# Altium footprint library TE NC6-P108-04.PCBLIB: 1 footprints
Each footprint in its own frame and in the unit in brackets; x right, y up, seen from the top. Pads: shape width x height; smd on the part's side, far side on the other; paste and mask are expansions set on the pad; w line width, h text height; cw(c..) or ccw(c..) is an arc to the next point about the centre after c.
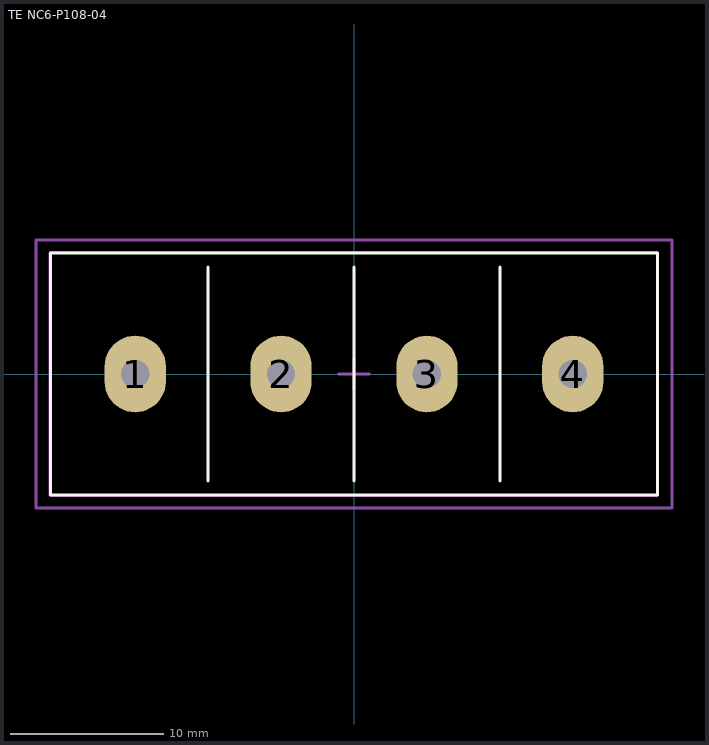
[diagram p0: the footprint, top view; thin cyan lines are the x and y axes]

## TE NC6-P108-04 [mm]
height 16.51
pads (4):
  oval 4x5 hole 1.854: 1(-14.289,0) 2(-4.764,0) 3(4.761,0) 4(14.286,0)
Top Overlay:
  lines w0.2: -9.526,-7 -9.526,7 ; -0.001,-7 -0.001,7 ; 9.524,-7 9.524,7 ; -19.826,-7.9 19.826,-7.9 19.826,7.9 -19.826,7.9 -19.826,-7.9
Mechanical 1:
  lines w0.2: -19.838,-7.937 19.813,-7.937 19.813,7.938 -19.838,7.938 -19.838,-7.937
Mechanical 15:
  lines w0.2: -1,0 1,0 ; 0,-1 0,1 ; -20.776,-8.75 20.776,-8.75 20.776,8.75 -20.776,8.75 -20.776,-8.75
3D body "TE NC6-P108-04.STEP": height 16.38, standoff -4.57, extent -19.837,-7.937 19.812,7.938